# EAGLE library part IS31AP2005 (library MyComponents)
Class-D mono audio power amplifier (2.95W)
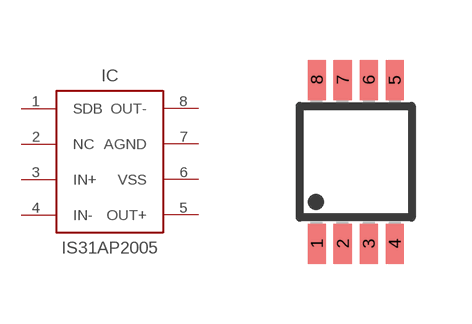
[diagram p13: symbol with the pads of MSOP-8; footprint MSOP-8]

Designator prefix IC

## IS31AP2005 (MOUSER: 870-31AP2005SLS2TR)  [MSOP-8]
1  SDB
2  NC
3  IN+
4  IN-
5  OUT+
6  VSS
7  AGND
8  OUT-

## Footprint MSOP-8 (pad centres in mm)
Micro Small Outline Package Grid 0.65mm Source: http://ww1.microchip.com/downloads/en/DeviceDoc/21796H.pdf
smd 0.45 x 1: 1 -0.975,-2.05; 2 -0.325,-2.05; 3 0.325,-2.05; 4 0.975,-2.05; 5 0.975,2.05; 6 0.325,2.05; 7 -0.325,2.05; 8 -0.975,2.05